# Altium footprint library R 0,250W.PcbLib: 1 footprints
Each footprint in its own frame and in the unit in brackets; x right, y up, seen from the top. Pads: shape width x height; smd on the part's side, far side on the other; paste and mask are expansions set on the pad; w line width, h text height; cw(c..) or ccw(c..) is an arc to the next point about the centre after c.
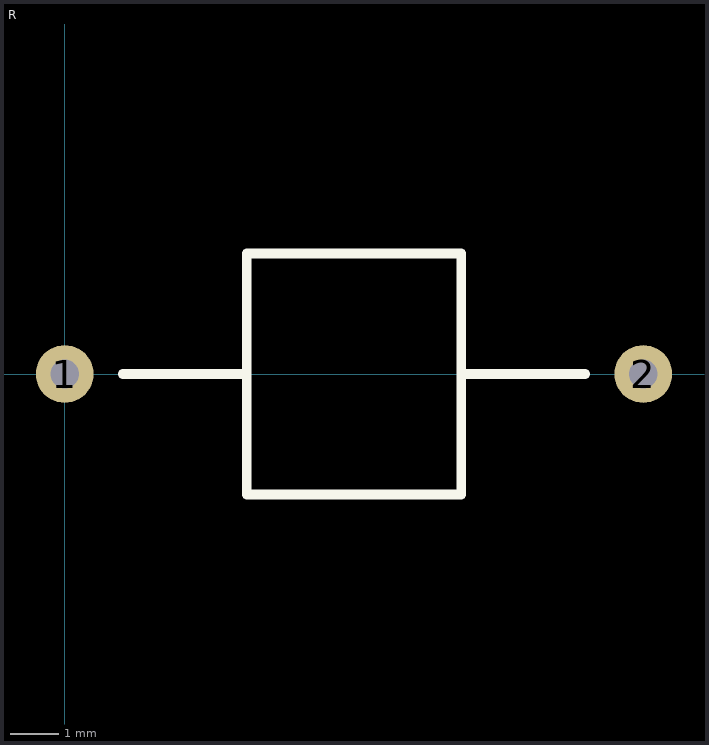
[diagram p0: the footprint, top view; thin cyan lines are the x and y axes]

## R [mm]
pads (2):
  round 1.2 hole 0.6: 1(0,0) 2(12,0)
Top Overlay:
  lines w0.2: 1.2,0 3.775,0 ; 8.225,0 10.8,0 ; 3.775,0 3.775,-2.5 8.225,-2.5 8.225,2.5 3.775,2.5 3.775,0